# Altium footprint library SW_PTS526_SMG15_SMTR2_LFS.PcbLib: 1 footprints
Each footprint in its own frame and in the unit in brackets; x right, y up, seen from the top. Pads: shape width x height; smd on the part's side, far side on the other; paste and mask are expansions set on the pad; w line width, h text height; cw(c..) or ccw(c..) is an arc to the next point about the centre after c.
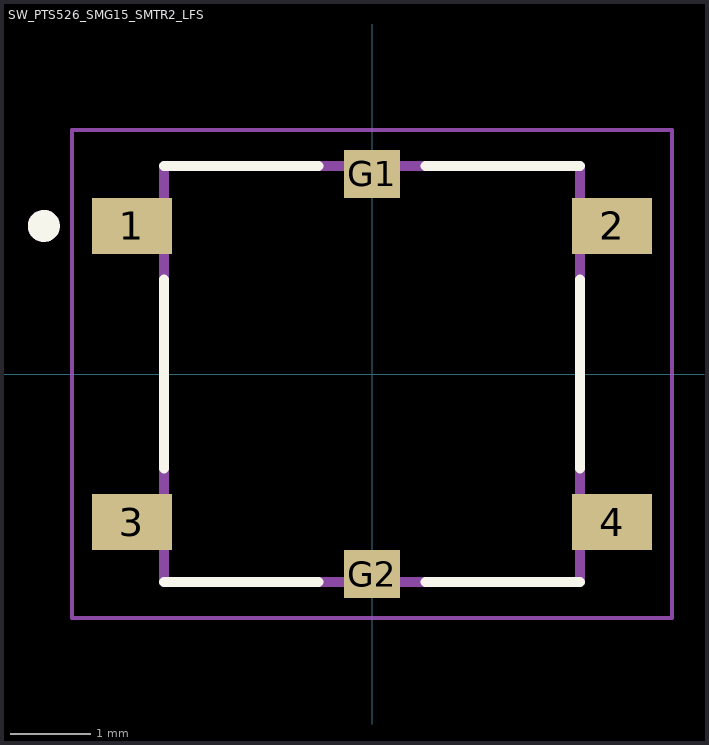
[diagram p0: the footprint, top view; thin cyan lines are the x and y axes]

## SW_PTS526_SMG15_SMTR2_LFS [mm]
height 1.65
pads (6):
  rect 1x0.7 smd: 1(-3,1.85) 2(3,1.85) 3(-3,-1.85) 4(3,-1.85)
  rect 0.7x0.6 smd: G1(0,2.5) G2(0,-2.5)
Top Overlay:
  circle w0.2: c-4.1,1.85 r0.1
  lines w0.127: -2.6,-2.6 -0.67,-2.6 ; -2.6,-1.18 -2.6,1.18 ; -2.6,2.6 -0.67,2.6 ; 0.67,-2.6 2.6,-2.6 ; 0.67,2.6 2.6,2.6 ; 2.6,-1.18 2.6,1.18
Mechanical 13:
  circle w0.2: c-4.1,1.85 r0.1
  lines w0.127: -2.6,-2.6 2.6,-2.6 2.6,2.6 -2.6,2.6 -2.6,-2.6
Mechanical 15:
  lines w0.05: -3.75,-3.05 3.75,-3.05 3.75,3.05 -3.75,3.05 -3.75,-3.05
3D body "step_temp.STEP": height 1.7, standoff 0, extent -3.2,-2.6 3.2,2.6